# Altium integrated library RJ45_Ethernet.IntLib: 1 symbol
Pins are listed as number, name and electrical type; pins without a type are passive.

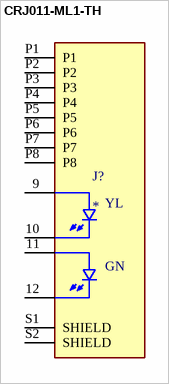
[diagram p0: symbol CRJ011-ML1-TH]

## CRJ011-ML1-TH
designator J?
10/100 BaseT, 8P8C, Horizontal, Shielded, LED, Through Hole, 6 Âµin Plating, RJ45 with Integrated Magnetics Modular Connector; MF: Same Sky; MP: CRJ011-ML1-TH; SnapEDA_Link: https://www.snapeda.com/parts/CRJ011-ML1-TH/Same+Sky/view-part/?ref=snap; Package: None; Value: *; Check_prices: https://www.snapeda.com/parts/CRJ011-ML1-TH/Same+Sky/view-part/?ref=eda
footprint CUI_CRJ011-ML1-TH
pins: 9, 10, 11, 12, P1, P2, P3, P4, P5, P6, P7, P8, S1 SHIELD, S2 SHIELD
text: YL; GN